# EAGLE library part VDMO10A0 (library VDMO10A0)
VISHAY - VDMO10A0 - DISPLAY, SEVEN SEGMENT, 10MM, ORANGE Source: Datasheet <https://www.vishay.com/docs/84196/vdmx10x0.pdf>
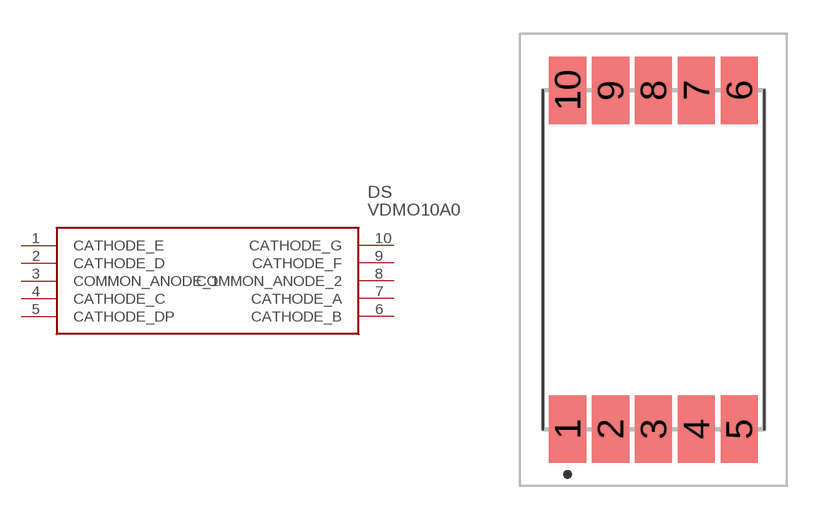
[diagram p0: symbol with the pads of VDMO10A0; footprint VDMO10A0]

Designator prefix DS

## VDMO10A0 (Description: VISHAY - VDMO10A0 - DISPLAY, SEVEN SEGMENT, 10MM, ORANGE; Height: 3.75mm; Manufacturer_Name: Vishay; Manufacturer_Part_Number: VDMO10A0)  [VDMO10A0]
1  CATHODE_E
2  CATHODE_D
3  COMMON_ANODE_1
4  CATHODE_C
5  CATHODE_DP
6  CATHODE_B
7  CATHODE_A
8  COMMON_ANODE_2
9  CATHODE_F
10  CATHODE_G

## Footprint VDMO10A0 (pad centres in mm)
VDMO10A0-1
smd 1.65 x 3: 1 -3.8,-7.5; 2 -1.9,-7.5; 3 0,-7.5; 4 1.9,-7.5; 5 3.8,-7.5; 6 3.8,7.5; 7 1.9,7.5; 8 0,7.5; 9 -1.9,7.5; 10 -3.8,7.5